# Altium schematic symbol library Schlib_PUI_Audio.SchLib: 1 symbol
Pins are listed as number, name and electrical type; pins without a type are passive.

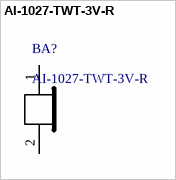
[diagram p0: symbol AI-1027-TWT-3V-R]

## AI-1027-TWT-3V-R
designator BA?
AUDIO MAGNETIC INDICATOR 2-5V TH; Manufacturer: PUI Audio Inc.; Frequency: 2.7kHz; Operating Mode: Single Tone; Current Supply: 30mA; Input Type: DC; PartNumber: AI-1027-TWT-3V-R; Voltage Range: 2-5V
footprint AI-1027
pins: 1, 2